# Altium integrated library Microchip Mixed Signal.IntLib: 1063 symbols (part 4 of 28)
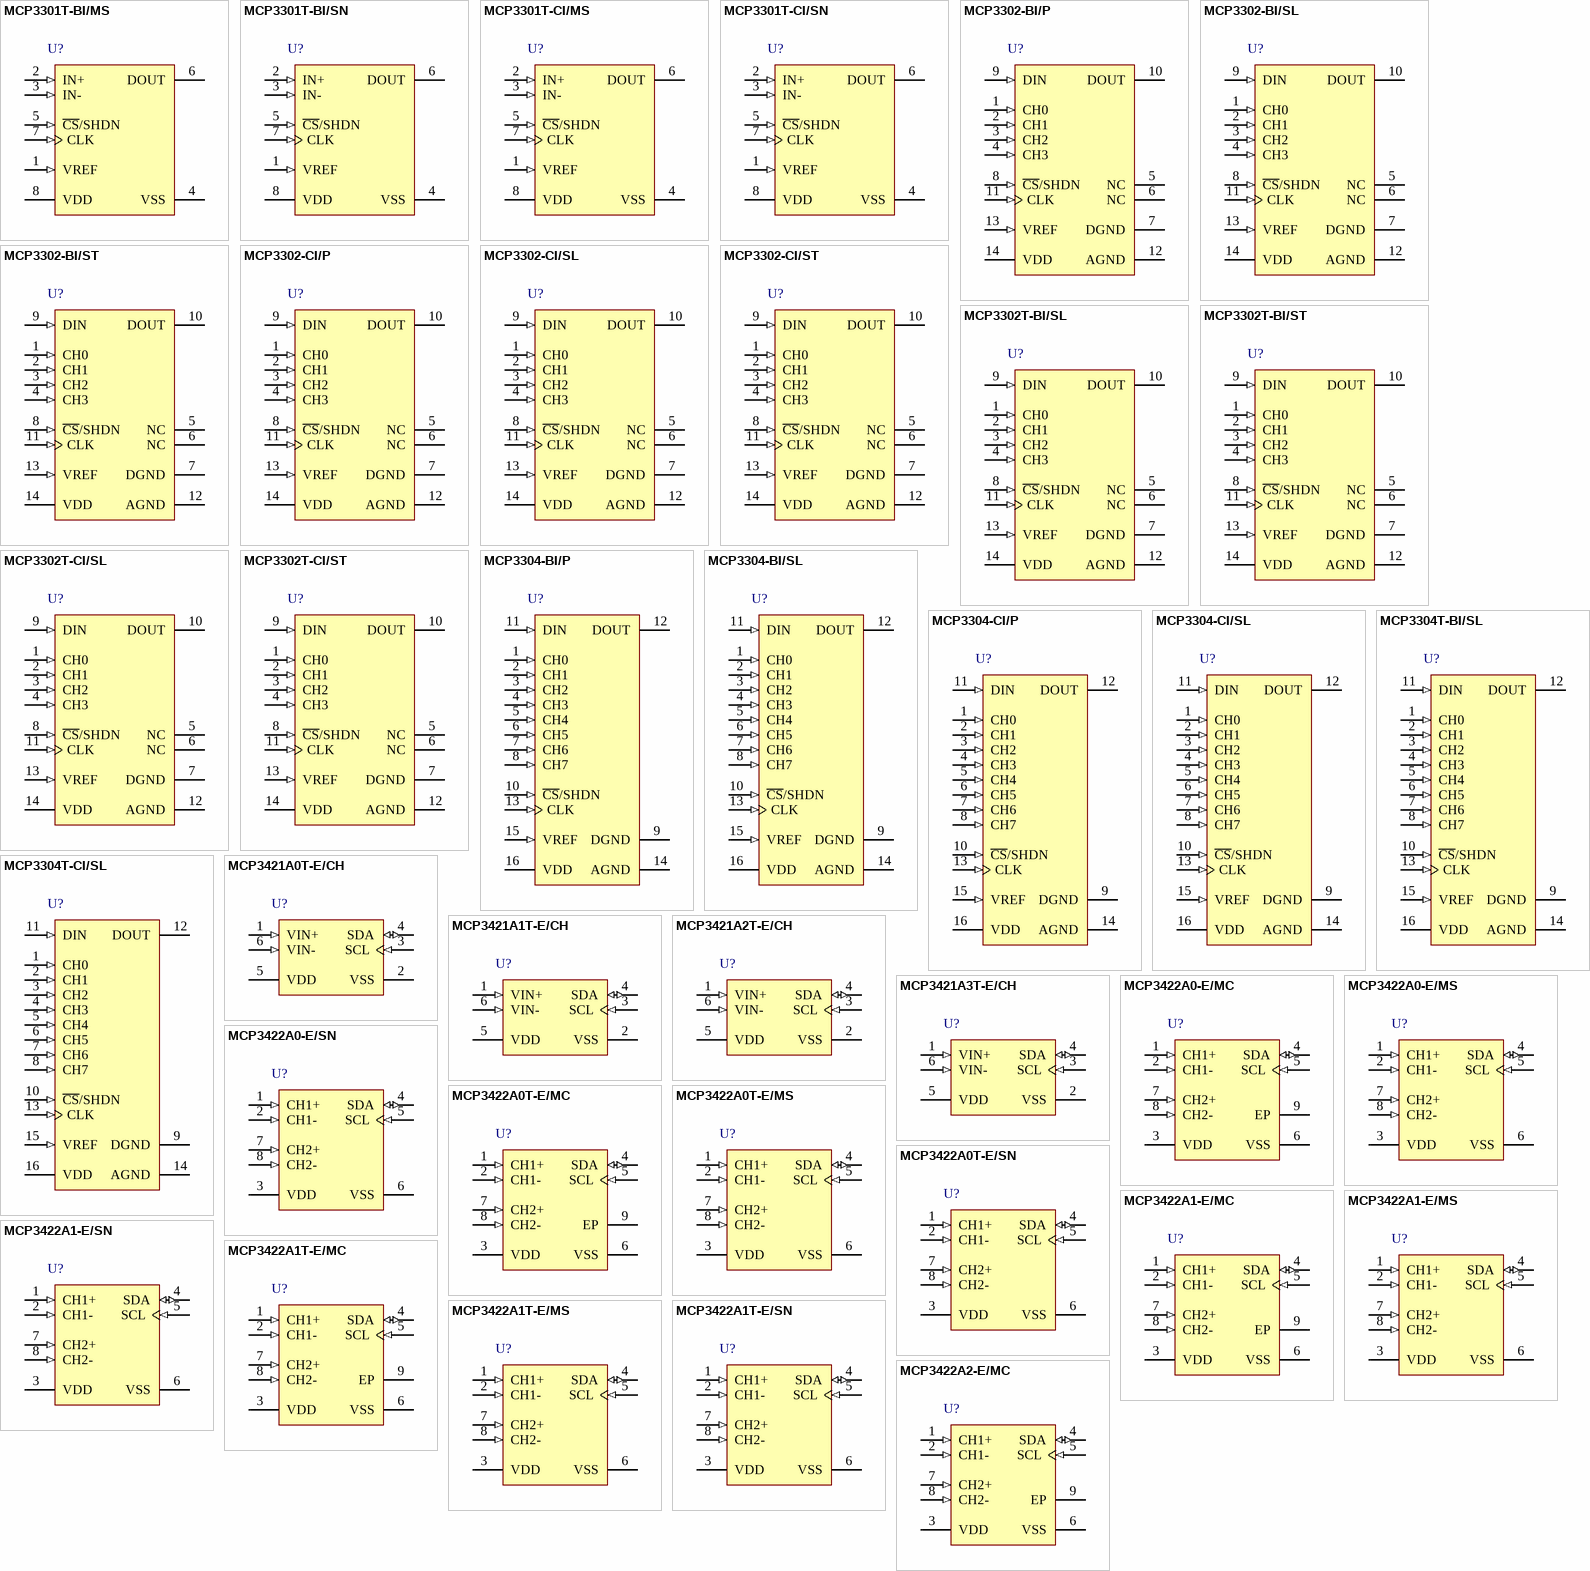
[diagram p34: symbols MCP3301T-BI/MS to MCP3422A2-E/MC]

## MCP3422A2-E/MC
designator U?
18-Bit, 4-Channel Analog-to-Digital Converter with I2C Interface and On-Board Reference, 8-pin DFN, Extended Temperature; Published: 2-Dec-2009; DatasheetVersion: revC, Aug-2009; PackageVersion: revBB, Aug-2009; PackageReference: DFN-MC8; Publisher: Altium Limited; PackageDescription: 8-Lead Plastic Dual Flat, No Lead Package (MC) - 2x3x0.9mm Body [DFN]; ComponentLink1Description: Datasheet; ComponentLink1URL: http://ww1.microchip.com/downloads/en/DeviceDoc/22088c.pdf; ComponentLink2Description: Packaging Specification; ComponentLink2URL: http://www.microchip.com/stellent/groups/techpub_sg/documents/packagingspec/en012702.pdf; ComponentLink3Description: Microchip.com Home; ComponentLink3URL: http://www.microchip.com/
footprint DFN-MC8 (SON, 8-Leads, Body 2x3mm, Pitch 0.5mm, Microchip Recommended)
pins: 1 CH1+ (in), 2 CH1- (in), 3 VDD (power), 4 SDA (io), 5 SCL (in), 6 VSS (power), 7 CH2+ (in), 8 CH2- (in), 9 EP

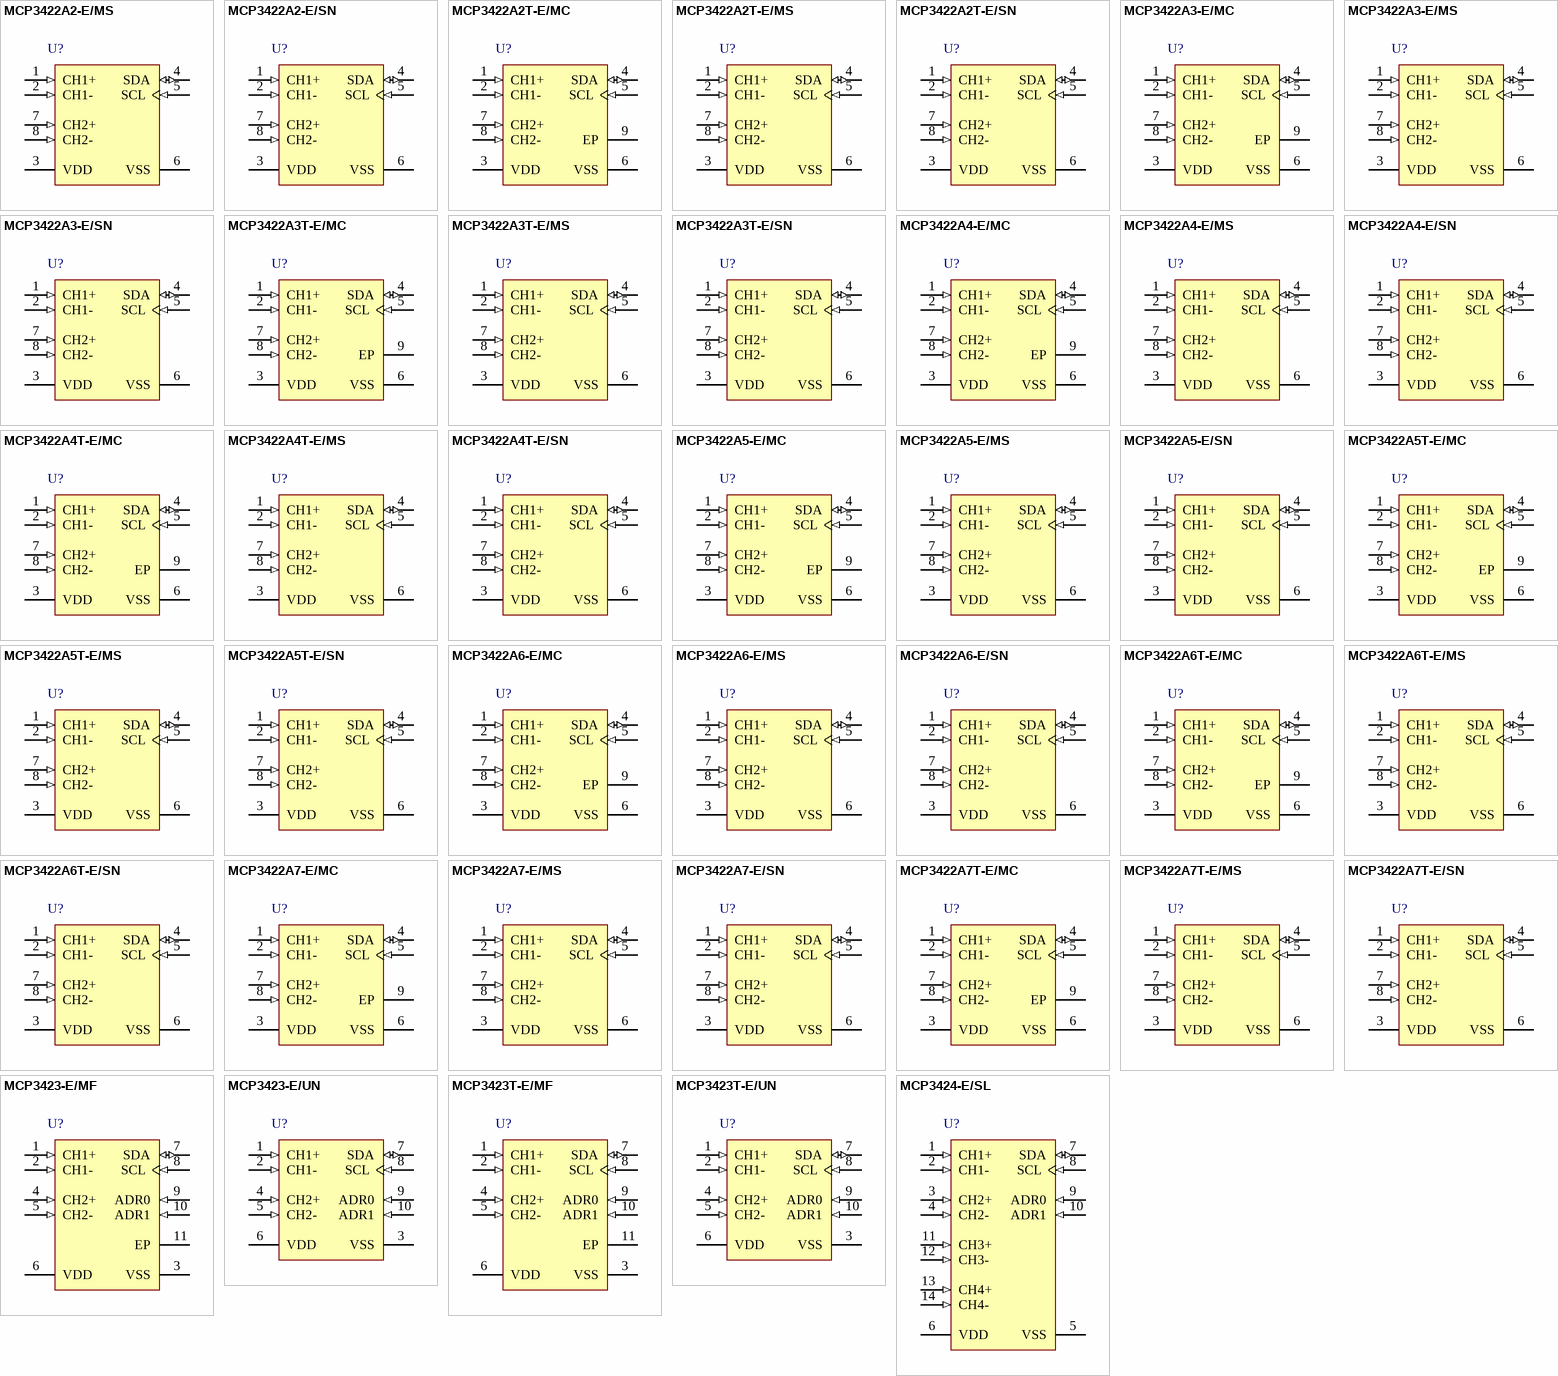
[diagram p3: symbols MCP3422A2-E/MS to MCP3424-E/SL]

## MCP3422A2-E/MS
designator U?
18-Bit, 4-Channel Analog-to-Digital Converter with I2C Interface and On-Board Reference, 8-pin MSOP, Extended Temperature; Published: 2-Dec-2009; DatasheetVersion: revC, Aug-2009; PackageVersion: revBB, Aug-2009; PackageReference: MSOP-MS8; Publisher: Altium Limited; PackageDescription: 8-Lead Plastic Micro Small Outline Package (MS) [MSOP]; ComponentLink1Description: Datasheet; ComponentLink1URL: http://ww1.microchip.com/downloads/en/DeviceDoc/22088c.pdf; ComponentLink2Description: Packaging Specification; ComponentLink2URL: http://www.microchip.com/stellent/groups/techpub_sg/documents/packagingspec/en012702.pdf; ComponentLink3Description: Microchip.com Home; ComponentLink3URL: http://www.microchip.com/
footprint MSOP-MS8_N (TSOP, 8-Leads, Body 3x3mm, Pitch 0.65mm, IPC Medium Density)
footprint MSOP-MS8_L (TSOP, 8-Leads, Body 3x3mm, Pitch 0.65mm, IPC High Density)
footprint MSOP-MS8_M (TSOP, 8-Leads, Body 3x3mm, Pitch 0.65mm, IPC Low Density)
pins: 1 CH1+ (in), 2 CH1- (in), 3 VDD (power), 4 SDA (io), 5 SCL (in), 6 VSS (power), 7 CH2+ (in), 8 CH2- (in)

## MCP3422A2-E/SN
designator U?
18-Bit, 4-Channel Analog-to-Digital Converter with I2C Interface and On-Board Reference, 8-pin SOIC, Extended Temperature; Published: 2-Dec-2009; DatasheetVersion: revC, Aug-2009; PackageVersion: revBB, Aug-2009; PackageReference: SOIC-SN8; Publisher: Altium Limited; PackageDescription: 8-Lead Plastic Small Outline (SN) - Narrow, 3.90mm Body [SOIC]; Code_JEDEC: MS-012; Code_IPC: SOIC127P600-8; ComponentLink1Description: Datasheet; ComponentLink1URL: http://ww1.microchip.com/downloads/en/DeviceDoc/22088c.pdf; ComponentLink2Description: Packaging Specification; ComponentLink2URL: http://www.microchip.com/stellent/groups/techpub_sg/documents/packagingspec/en012702.pdf; ComponentLink3Description: Microchip.com Home; ComponentLink3URL: http://www.microchip.com/
footprint SOIC-SN8_N (SOIC, 8-Leads, Body 4.9x3.8mm, Pitch 1.27mm, IPC Medium Density)
footprint SOIC-SN8_L (SOIC, 8-Leads, Body 4.9x3.8mm, Pitch 1.27mm, IPC High Density)
footprint SOIC-SN8_M (SOIC, 8-Leads, Body 4.9x3.8mm, Pitch 1.27mm, IPC Low Density)
pins: 1 CH1+ (in), 2 CH1- (in), 3 VDD (power), 4 SDA (io), 5 SCL (in), 6 VSS (power), 7 CH2+ (in), 8 CH2- (in)

## MCP3422A2T-E/MC
designator U?
18-Bit, 4-Channel Analog-to-Digital Converter with I2C Interface and On-Board Reference, 8-pin DFN, Extended Temperature, Tape and Reel; Published: 2-Dec-2009; DatasheetVersion: revC, Aug-2009; PackageVersion: revBB, Aug-2009; PackageReference: DFN-MC8; Publisher: Altium Limited; PackageDescription: 8-Lead Plastic Dual Flat, No Lead Package (MC) - 2x3x0.9mm Body [DFN]; ComponentLink1Description: Datasheet; ComponentLink1URL: http://ww1.microchip.com/downloads/en/DeviceDoc/22088c.pdf; ComponentLink2Description: Packaging Specification; ComponentLink2URL: http://www.microchip.com/stellent/groups/techpub_sg/documents/packagingspec/en012702.pdf; ComponentLink3Description: Microchip.com Home; ComponentLink3URL: http://www.microchip.com/
footprint DFN-MC8 (SON, 8-Leads, Body 2x3mm, Pitch 0.5mm, Microchip Recommended)
pins: 1 CH1+ (in), 2 CH1- (in), 3 VDD (power), 4 SDA (io), 5 SCL (in), 6 VSS (power), 7 CH2+ (in), 8 CH2- (in), 9 EP

## MCP3422A2T-E/MS
designator U?
18-Bit, 4-Channel Analog-to-Digital Converter with I2C Interface and On-Board Reference, 8-pin MSOP, Extended Temperature, Tape and Reel; Published: 2-Dec-2009; DatasheetVersion: revC, Aug-2009; PackageVersion: revBB, Aug-2009; PackageReference: MSOP-MS8; Publisher: Altium Limited; PackageDescription: 8-Lead Plastic Micro Small Outline Package (MS) [MSOP]; ComponentLink1Description: Datasheet; ComponentLink1URL: http://ww1.microchip.com/downloads/en/DeviceDoc/22088c.pdf; ComponentLink2Description: Packaging Specification; ComponentLink2URL: http://www.microchip.com/stellent/groups/techpub_sg/documents/packagingspec/en012702.pdf; ComponentLink3Description: Microchip.com Home; ComponentLink3URL: http://www.microchip.com/
footprint MSOP-MS8_N (TSOP, 8-Leads, Body 3x3mm, Pitch 0.65mm, IPC Medium Density)
footprint MSOP-MS8_L (TSOP, 8-Leads, Body 3x3mm, Pitch 0.65mm, IPC High Density)
footprint MSOP-MS8_M (TSOP, 8-Leads, Body 3x3mm, Pitch 0.65mm, IPC Low Density)
pins: 1 CH1+ (in), 2 CH1- (in), 3 VDD (power), 4 SDA (io), 5 SCL (in), 6 VSS (power), 7 CH2+ (in), 8 CH2- (in)

## MCP3422A2T-E/SN
designator U?
18-Bit, 4-Channel Analog-to-Digital Converter with I2C Interface and On-Board Reference, 8-pin SOIC, Extended Temperature, Tape and Reel; Published: 2-Dec-2009; DatasheetVersion: revC, Aug-2009; PackageVersion: revBB, Aug-2009; PackageReference: SOIC-SN8; Publisher: Altium Limited; PackageDescription: 8-Lead Plastic Small Outline (SN) - Narrow, 3.90mm Body [SOIC]; Code_JEDEC: MS-012; Code_IPC: SOIC127P600-8; ComponentLink1Description: Datasheet; ComponentLink1URL: http://ww1.microchip.com/downloads/en/DeviceDoc/22088c.pdf; ComponentLink2Description: Packaging Specification; ComponentLink2URL: http://www.microchip.com/stellent/groups/techpub_sg/documents/packagingspec/en012702.pdf; ComponentLink3Description: Microchip.com Home; ComponentLink3URL: http://www.microchip.com/
footprint SOIC-SN8_N (SOIC, 8-Leads, Body 4.9x3.8mm, Pitch 1.27mm, IPC Medium Density)
footprint SOIC-SN8_L (SOIC, 8-Leads, Body 4.9x3.8mm, Pitch 1.27mm, IPC High Density)
footprint SOIC-SN8_M (SOIC, 8-Leads, Body 4.9x3.8mm, Pitch 1.27mm, IPC Low Density)
pins: 1 CH1+ (in), 2 CH1- (in), 3 VDD (power), 4 SDA (io), 5 SCL (in), 6 VSS (power), 7 CH2+ (in), 8 CH2- (in)

## MCP3422A3-E/MC
designator U?
18-Bit, 4-Channel Analog-to-Digital Converter with I2C Interface and On-Board Reference, 8-pin DFN, Extended Temperature; Published: 2-Dec-2009; DatasheetVersion: revC, Aug-2009; PackageVersion: revBB, Aug-2009; PackageReference: DFN-MC8; Publisher: Altium Limited; PackageDescription: 8-Lead Plastic Dual Flat, No Lead Package (MC) - 2x3x0.9mm Body [DFN]; ComponentLink1Description: Datasheet; ComponentLink1URL: http://ww1.microchip.com/downloads/en/DeviceDoc/22088c.pdf; ComponentLink2Description: Packaging Specification; ComponentLink2URL: http://www.microchip.com/stellent/groups/techpub_sg/documents/packagingspec/en012702.pdf; ComponentLink3Description: Microchip.com Home; ComponentLink3URL: http://www.microchip.com/
footprint DFN-MC8 (SON, 8-Leads, Body 2x3mm, Pitch 0.5mm, Microchip Recommended)
pins: 1 CH1+ (in), 2 CH1- (in), 3 VDD (power), 4 SDA (io), 5 SCL (in), 6 VSS (power), 7 CH2+ (in), 8 CH2- (in), 9 EP

## MCP3422A3-E/MS
designator U?
18-Bit, 4-Channel Analog-to-Digital Converter with I2C Interface and On-Board Reference, 8-pin MSOP, Extended Temperature; Published: 2-Dec-2009; DatasheetVersion: revC, Aug-2009; PackageVersion: revBB, Aug-2009; PackageReference: MSOP-MS8; Publisher: Altium Limited; PackageDescription: 8-Lead Plastic Micro Small Outline Package (MS) [MSOP]; ComponentLink1Description: Datasheet; ComponentLink1URL: http://ww1.microchip.com/downloads/en/DeviceDoc/22088c.pdf; ComponentLink2Description: Packaging Specification; ComponentLink2URL: http://www.microchip.com/stellent/groups/techpub_sg/documents/packagingspec/en012702.pdf; ComponentLink3Description: Microchip.com Home; ComponentLink3URL: http://www.microchip.com/
footprint MSOP-MS8_N (TSOP, 8-Leads, Body 3x3mm, Pitch 0.65mm, IPC Medium Density)
footprint MSOP-MS8_L (TSOP, 8-Leads, Body 3x3mm, Pitch 0.65mm, IPC High Density)
footprint MSOP-MS8_M (TSOP, 8-Leads, Body 3x3mm, Pitch 0.65mm, IPC Low Density)
pins: 1 CH1+ (in), 2 CH1- (in), 3 VDD (power), 4 SDA (io), 5 SCL (in), 6 VSS (power), 7 CH2+ (in), 8 CH2- (in)

## MCP3422A3-E/SN
designator U?
18-Bit, 4-Channel Analog-to-Digital Converter with I2C Interface and On-Board Reference, 8-pin SOIC, Extended Temperature; Published: 2-Dec-2009; DatasheetVersion: revC, Aug-2009; PackageVersion: revBB, Aug-2009; PackageReference: SOIC-SN8; Publisher: Altium Limited; PackageDescription: 8-Lead Plastic Small Outline (SN) - Narrow, 3.90mm Body [SOIC]; Code_JEDEC: MS-012; Code_IPC: SOIC127P600-8; ComponentLink1Description: Datasheet; ComponentLink1URL: http://ww1.microchip.com/downloads/en/DeviceDoc/22088c.pdf; ComponentLink2Description: Packaging Specification; ComponentLink2URL: http://www.microchip.com/stellent/groups/techpub_sg/documents/packagingspec/en012702.pdf; ComponentLink3Description: Microchip.com Home; ComponentLink3URL: http://www.microchip.com/
footprint SOIC-SN8_N (SOIC, 8-Leads, Body 4.9x3.8mm, Pitch 1.27mm, IPC Medium Density)
footprint SOIC-SN8_L (SOIC, 8-Leads, Body 4.9x3.8mm, Pitch 1.27mm, IPC High Density)
footprint SOIC-SN8_M (SOIC, 8-Leads, Body 4.9x3.8mm, Pitch 1.27mm, IPC Low Density)
pins: 1 CH1+ (in), 2 CH1- (in), 3 VDD (power), 4 SDA (io), 5 SCL (in), 6 VSS (power), 7 CH2+ (in), 8 CH2- (in)

## MCP3422A3T-E/MC
designator U?
18-Bit, 4-Channel Analog-to-Digital Converter with I2C Interface and On-Board Reference, 8-pin DFN, Extended Temperature, Tape and Reel; Published: 2-Dec-2009; DatasheetVersion: revC, Aug-2009; PackageVersion: revBB, Aug-2009; PackageReference: DFN-MC8; Publisher: Altium Limited; PackageDescription: 8-Lead Plastic Dual Flat, No Lead Package (MC) - 2x3x0.9mm Body [DFN]; ComponentLink1Description: Datasheet; ComponentLink1URL: http://ww1.microchip.com/downloads/en/DeviceDoc/22088c.pdf; ComponentLink2Description: Packaging Specification; ComponentLink2URL: http://www.microchip.com/stellent/groups/techpub_sg/documents/packagingspec/en012702.pdf; ComponentLink3Description: Microchip.com Home; ComponentLink3URL: http://www.microchip.com/
footprint DFN-MC8 (SON, 8-Leads, Body 2x3mm, Pitch 0.5mm, Microchip Recommended)
pins: 1 CH1+ (in), 2 CH1- (in), 3 VDD (power), 4 SDA (io), 5 SCL (in), 6 VSS (power), 7 CH2+ (in), 8 CH2- (in), 9 EP

## MCP3422A3T-E/MS
designator U?
18-Bit, 4-Channel Analog-to-Digital Converter with I2C Interface and On-Board Reference, 8-pin MSOP, Extended Temperature, Tape and Reel; Published: 2-Dec-2009; DatasheetVersion: revC, Aug-2009; PackageVersion: revBB, Aug-2009; PackageReference: MSOP-MS8; Publisher: Altium Limited; PackageDescription: 8-Lead Plastic Micro Small Outline Package (MS) [MSOP]; ComponentLink1Description: Datasheet; ComponentLink1URL: http://ww1.microchip.com/downloads/en/DeviceDoc/22088c.pdf; ComponentLink2Description: Packaging Specification; ComponentLink2URL: http://www.microchip.com/stellent/groups/techpub_sg/documents/packagingspec/en012702.pdf; ComponentLink3Description: Microchip.com Home; ComponentLink3URL: http://www.microchip.com/
footprint MSOP-MS8_N (TSOP, 8-Leads, Body 3x3mm, Pitch 0.65mm, IPC Medium Density)
footprint MSOP-MS8_L (TSOP, 8-Leads, Body 3x3mm, Pitch 0.65mm, IPC High Density)
footprint MSOP-MS8_M (TSOP, 8-Leads, Body 3x3mm, Pitch 0.65mm, IPC Low Density)
pins: 1 CH1+ (in), 2 CH1- (in), 3 VDD (power), 4 SDA (io), 5 SCL (in), 6 VSS (power), 7 CH2+ (in), 8 CH2- (in)

## MCP3422A3T-E/SN
designator U?
18-Bit, 4-Channel Analog-to-Digital Converter with I2C Interface and On-Board Reference, 8-pin SOIC, Extended Temperature, Tape and Reel; Published: 2-Dec-2009; DatasheetVersion: revC, Aug-2009; PackageVersion: revBB, Aug-2009; PackageReference: SOIC-SN8; Publisher: Altium Limited; PackageDescription: 8-Lead Plastic Small Outline (SN) - Narrow, 3.90mm Body [SOIC]; Code_JEDEC: MS-012; Code_IPC: SOIC127P600-8; ComponentLink1Description: Datasheet; ComponentLink1URL: http://ww1.microchip.com/downloads/en/DeviceDoc/22088c.pdf; ComponentLink2Description: Packaging Specification; ComponentLink2URL: http://www.microchip.com/stellent/groups/techpub_sg/documents/packagingspec/en012702.pdf; ComponentLink3Description: Microchip.com Home; ComponentLink3URL: http://www.microchip.com/
footprint SOIC-SN8_N (SOIC, 8-Leads, Body 4.9x3.8mm, Pitch 1.27mm, IPC Medium Density)
footprint SOIC-SN8_L (SOIC, 8-Leads, Body 4.9x3.8mm, Pitch 1.27mm, IPC High Density)
footprint SOIC-SN8_M (SOIC, 8-Leads, Body 4.9x3.8mm, Pitch 1.27mm, IPC Low Density)
pins: 1 CH1+ (in), 2 CH1- (in), 3 VDD (power), 4 SDA (io), 5 SCL (in), 6 VSS (power), 7 CH2+ (in), 8 CH2- (in)

## MCP3422A4-E/MC
designator U?
18-Bit, 4-Channel Analog-to-Digital Converter with I2C Interface and On-Board Reference, 8-pin DFN, Extended Temperature; Published: 2-Dec-2009; DatasheetVersion: revC, Aug-2009; PackageVersion: revBB, Aug-2009; PackageReference: DFN-MC8; Publisher: Altium Limited; PackageDescription: 8-Lead Plastic Dual Flat, No Lead Package (MC) - 2x3x0.9mm Body [DFN]; ComponentLink1Description: Datasheet; ComponentLink1URL: http://ww1.microchip.com/downloads/en/DeviceDoc/22088c.pdf; ComponentLink2Description: Packaging Specification; ComponentLink2URL: http://www.microchip.com/stellent/groups/techpub_sg/documents/packagingspec/en012702.pdf; ComponentLink3Description: Microchip.com Home; ComponentLink3URL: http://www.microchip.com/
footprint DFN-MC8 (SON, 8-Leads, Body 2x3mm, Pitch 0.5mm, Microchip Recommended)
pins: 1 CH1+ (in), 2 CH1- (in), 3 VDD (power), 4 SDA (io), 5 SCL (in), 6 VSS (power), 7 CH2+ (in), 8 CH2- (in), 9 EP

## MCP3422A4-E/MS
designator U?
18-Bit, 4-Channel Analog-to-Digital Converter with I2C Interface and On-Board Reference, 8-pin MSOP, Extended Temperature; Published: 2-Dec-2009; DatasheetVersion: revC, Aug-2009; PackageVersion: revBB, Aug-2009; PackageReference: MSOP-MS8; Publisher: Altium Limited; PackageDescription: 8-Lead Plastic Micro Small Outline Package (MS) [MSOP]; ComponentLink1Description: Datasheet; ComponentLink1URL: http://ww1.microchip.com/downloads/en/DeviceDoc/22088c.pdf; ComponentLink2Description: Packaging Specification; ComponentLink2URL: http://www.microchip.com/stellent/groups/techpub_sg/documents/packagingspec/en012702.pdf; ComponentLink3Description: Microchip.com Home; ComponentLink3URL: http://www.microchip.com/
footprint MSOP-MS8_N (TSOP, 8-Leads, Body 3x3mm, Pitch 0.65mm, IPC Medium Density)
footprint MSOP-MS8_L (TSOP, 8-Leads, Body 3x3mm, Pitch 0.65mm, IPC High Density)
footprint MSOP-MS8_M (TSOP, 8-Leads, Body 3x3mm, Pitch 0.65mm, IPC Low Density)
pins: 1 CH1+ (in), 2 CH1- (in), 3 VDD (power), 4 SDA (io), 5 SCL (in), 6 VSS (power), 7 CH2+ (in), 8 CH2- (in)

## MCP3422A4-E/SN
designator U?
18-Bit, 4-Channel Analog-to-Digital Converter with I2C Interface and On-Board Reference, 8-pin SOIC, Extended Temperature; Published: 2-Dec-2009; DatasheetVersion: revC, Aug-2009; PackageVersion: revBB, Aug-2009; PackageReference: SOIC-SN8; Publisher: Altium Limited; PackageDescription: 8-Lead Plastic Small Outline (SN) - Narrow, 3.90mm Body [SOIC]; Code_JEDEC: MS-012; Code_IPC: SOIC127P600-8; ComponentLink1Description: Datasheet; ComponentLink1URL: http://ww1.microchip.com/downloads/en/DeviceDoc/22088c.pdf; ComponentLink2Description: Packaging Specification; ComponentLink2URL: http://www.microchip.com/stellent/groups/techpub_sg/documents/packagingspec/en012702.pdf; ComponentLink3Description: Microchip.com Home; ComponentLink3URL: http://www.microchip.com/
footprint SOIC-SN8_N (SOIC, 8-Leads, Body 4.9x3.8mm, Pitch 1.27mm, IPC Medium Density)
footprint SOIC-SN8_L (SOIC, 8-Leads, Body 4.9x3.8mm, Pitch 1.27mm, IPC High Density)
footprint SOIC-SN8_M (SOIC, 8-Leads, Body 4.9x3.8mm, Pitch 1.27mm, IPC Low Density)
pins: 1 CH1+ (in), 2 CH1- (in), 3 VDD (power), 4 SDA (io), 5 SCL (in), 6 VSS (power), 7 CH2+ (in), 8 CH2- (in)

## MCP3422A4T-E/MC
designator U?
18-Bit, 4-Channel Analog-to-Digital Converter with I2C Interface and On-Board Reference, 8-pin DFN, Extended Temperature, Tape and Reel; Published: 2-Dec-2009; DatasheetVersion: revC, Aug-2009; PackageVersion: revBB, Aug-2009; PackageReference: DFN-MC8; Publisher: Altium Limited; PackageDescription: 8-Lead Plastic Dual Flat, No Lead Package (MC) - 2x3x0.9mm Body [DFN]; ComponentLink1Description: Datasheet; ComponentLink1URL: http://ww1.microchip.com/downloads/en/DeviceDoc/22088c.pdf; ComponentLink2Description: Packaging Specification; ComponentLink2URL: http://www.microchip.com/stellent/groups/techpub_sg/documents/packagingspec/en012702.pdf; ComponentLink3Description: Microchip.com Home; ComponentLink3URL: http://www.microchip.com/
footprint DFN-MC8 (SON, 8-Leads, Body 2x3mm, Pitch 0.5mm, Microchip Recommended)
pins: 1 CH1+ (in), 2 CH1- (in), 3 VDD (power), 4 SDA (io), 5 SCL (in), 6 VSS (power), 7 CH2+ (in), 8 CH2- (in), 9 EP

## MCP3422A4T-E/MS
designator U?
18-Bit, 4-Channel Analog-to-Digital Converter with I2C Interface and On-Board Reference, 8-pin MSOP, Extended Temperature, Tape and Reel; Published: 2-Dec-2009; DatasheetVersion: revC, Aug-2009; PackageVersion: revBB, Aug-2009; PackageReference: MSOP-MS8; Publisher: Altium Limited; PackageDescription: 8-Lead Plastic Micro Small Outline Package (MS) [MSOP]; ComponentLink1Description: Datasheet; ComponentLink1URL: http://ww1.microchip.com/downloads/en/DeviceDoc/22088c.pdf; ComponentLink2Description: Packaging Specification; ComponentLink2URL: http://www.microchip.com/stellent/groups/techpub_sg/documents/packagingspec/en012702.pdf; ComponentLink3Description: Microchip.com Home; ComponentLink3URL: http://www.microchip.com/
footprint MSOP-MS8_N (TSOP, 8-Leads, Body 3x3mm, Pitch 0.65mm, IPC Medium Density)
footprint MSOP-MS8_L (TSOP, 8-Leads, Body 3x3mm, Pitch 0.65mm, IPC High Density)
footprint MSOP-MS8_M (TSOP, 8-Leads, Body 3x3mm, Pitch 0.65mm, IPC Low Density)
pins: 1 CH1+ (in), 2 CH1- (in), 3 VDD (power), 4 SDA (io), 5 SCL (in), 6 VSS (power), 7 CH2+ (in), 8 CH2- (in)

## MCP3422A4T-E/SN
designator U?
18-Bit, 4-Channel Analog-to-Digital Converter with I2C Interface and On-Board Reference, 8-pin SOIC, Extended Temperature, Tape and Reel; Published: 2-Dec-2009; DatasheetVersion: revC, Aug-2009; PackageVersion: revBB, Aug-2009; PackageReference: SOIC-SN8; Publisher: Altium Limited; PackageDescription: 8-Lead Plastic Small Outline (SN) - Narrow, 3.90mm Body [SOIC]; Code_JEDEC: MS-012; Code_IPC: SOIC127P600-8; ComponentLink1Description: Datasheet; ComponentLink1URL: http://ww1.microchip.com/downloads/en/DeviceDoc/22088c.pdf; ComponentLink2Description: Packaging Specification; ComponentLink2URL: http://www.microchip.com/stellent/groups/techpub_sg/documents/packagingspec/en012702.pdf; ComponentLink3Description: Microchip.com Home; ComponentLink3URL: http://www.microchip.com/
footprint SOIC-SN8_N (SOIC, 8-Leads, Body 4.9x3.8mm, Pitch 1.27mm, IPC Medium Density)
footprint SOIC-SN8_L (SOIC, 8-Leads, Body 4.9x3.8mm, Pitch 1.27mm, IPC High Density)
footprint SOIC-SN8_M (SOIC, 8-Leads, Body 4.9x3.8mm, Pitch 1.27mm, IPC Low Density)
pins: 1 CH1+ (in), 2 CH1- (in), 3 VDD (power), 4 SDA (io), 5 SCL (in), 6 VSS (power), 7 CH2+ (in), 8 CH2- (in)

## MCP3422A5-E/MC
designator U?
18-Bit, 4-Channel Analog-to-Digital Converter with I2C Interface and On-Board Reference, 8-pin DFN, Extended Temperature; Published: 2-Dec-2009; DatasheetVersion: revC, Aug-2009; PackageVersion: revBB, Aug-2009; PackageReference: DFN-MC8; Publisher: Altium Limited; PackageDescription: 8-Lead Plastic Dual Flat, No Lead Package (MC) - 2x3x0.9mm Body [DFN]; ComponentLink1Description: Datasheet; ComponentLink1URL: http://ww1.microchip.com/downloads/en/DeviceDoc/22088c.pdf; ComponentLink2Description: Packaging Specification; ComponentLink2URL: http://www.microchip.com/stellent/groups/techpub_sg/documents/packagingspec/en012702.pdf; ComponentLink3Description: Microchip.com Home; ComponentLink3URL: http://www.microchip.com/
footprint DFN-MC8 (SON, 8-Leads, Body 2x3mm, Pitch 0.5mm, Microchip Recommended)
pins: 1 CH1+ (in), 2 CH1- (in), 3 VDD (power), 4 SDA (io), 5 SCL (in), 6 VSS (power), 7 CH2+ (in), 8 CH2- (in), 9 EP

## MCP3422A5-E/MS
designator U?
18-Bit, 4-Channel Analog-to-Digital Converter with I2C Interface and On-Board Reference, 8-pin MSOP, Extended Temperature; Published: 2-Dec-2009; DatasheetVersion: revC, Aug-2009; PackageVersion: revBB, Aug-2009; PackageReference: MSOP-MS8; Publisher: Altium Limited; PackageDescription: 8-Lead Plastic Micro Small Outline Package (MS) [MSOP]; ComponentLink1Description: Datasheet; ComponentLink1URL: http://ww1.microchip.com/downloads/en/DeviceDoc/22088c.pdf; ComponentLink2Description: Packaging Specification; ComponentLink2URL: http://www.microchip.com/stellent/groups/techpub_sg/documents/packagingspec/en012702.pdf; ComponentLink3Description: Microchip.com Home; ComponentLink3URL: http://www.microchip.com/
footprint MSOP-MS8_N (TSOP, 8-Leads, Body 3x3mm, Pitch 0.65mm, IPC Medium Density)
footprint MSOP-MS8_L (TSOP, 8-Leads, Body 3x3mm, Pitch 0.65mm, IPC High Density)
footprint MSOP-MS8_M (TSOP, 8-Leads, Body 3x3mm, Pitch 0.65mm, IPC Low Density)
pins: 1 CH1+ (in), 2 CH1- (in), 3 VDD (power), 4 SDA (io), 5 SCL (in), 6 VSS (power), 7 CH2+ (in), 8 CH2- (in)

## MCP3422A5-E/SN
designator U?
18-Bit, 4-Channel Analog-to-Digital Converter with I2C Interface and On-Board Reference, 8-pin SOIC, Extended Temperature; Published: 2-Dec-2009; DatasheetVersion: revC, Aug-2009; PackageVersion: revBB, Aug-2009; PackageReference: SOIC-SN8; Publisher: Altium Limited; PackageDescription: 8-Lead Plastic Small Outline (SN) - Narrow, 3.90mm Body [SOIC]; Code_JEDEC: MS-012; Code_IPC: SOIC127P600-8; ComponentLink1Description: Datasheet; ComponentLink1URL: http://ww1.microchip.com/downloads/en/DeviceDoc/22088c.pdf; ComponentLink2Description: Packaging Specification; ComponentLink2URL: http://www.microchip.com/stellent/groups/techpub_sg/documents/packagingspec/en012702.pdf; ComponentLink3Description: Microchip.com Home; ComponentLink3URL: http://www.microchip.com/
footprint SOIC-SN8_N (SOIC, 8-Leads, Body 4.9x3.8mm, Pitch 1.27mm, IPC Medium Density)
footprint SOIC-SN8_L (SOIC, 8-Leads, Body 4.9x3.8mm, Pitch 1.27mm, IPC High Density)
footprint SOIC-SN8_M (SOIC, 8-Leads, Body 4.9x3.8mm, Pitch 1.27mm, IPC Low Density)
pins: 1 CH1+ (in), 2 CH1- (in), 3 VDD (power), 4 SDA (io), 5 SCL (in), 6 VSS (power), 7 CH2+ (in), 8 CH2- (in)

## MCP3422A5T-E/MC
designator U?
18-Bit, 4-Channel Analog-to-Digital Converter with I2C Interface and On-Board Reference, 8-pin DFN, Extended Temperature, Tape and Reel; Published: 2-Dec-2009; DatasheetVersion: revC, Aug-2009; PackageVersion: revBB, Aug-2009; PackageReference: DFN-MC8; Publisher: Altium Limited; PackageDescription: 8-Lead Plastic Dual Flat, No Lead Package (MC) - 2x3x0.9mm Body [DFN]; ComponentLink1Description: Datasheet; ComponentLink1URL: http://ww1.microchip.com/downloads/en/DeviceDoc/22088c.pdf; ComponentLink2Description: Packaging Specification; ComponentLink2URL: http://www.microchip.com/stellent/groups/techpub_sg/documents/packagingspec/en012702.pdf; ComponentLink3Description: Microchip.com Home; ComponentLink3URL: http://www.microchip.com/
footprint DFN-MC8 (SON, 8-Leads, Body 2x3mm, Pitch 0.5mm, Microchip Recommended)
pins: 1 CH1+ (in), 2 CH1- (in), 3 VDD (power), 4 SDA (io), 5 SCL (in), 6 VSS (power), 7 CH2+ (in), 8 CH2- (in), 9 EP

## MCP3422A5T-E/MS
designator U?
18-Bit, 4-Channel Analog-to-Digital Converter with I2C Interface and On-Board Reference, 8-pin MSOP, Extended Temperature, Tape and Reel; Published: 2-Dec-2009; DatasheetVersion: revC, Aug-2009; PackageVersion: revBB, Aug-2009; PackageReference: MSOP-MS8; Publisher: Altium Limited; PackageDescription: 8-Lead Plastic Micro Small Outline Package (MS) [MSOP]; ComponentLink1Description: Datasheet; ComponentLink1URL: http://ww1.microchip.com/downloads/en/DeviceDoc/22088c.pdf; ComponentLink2Description: Packaging Specification; ComponentLink2URL: http://www.microchip.com/stellent/groups/techpub_sg/documents/packagingspec/en012702.pdf; ComponentLink3Description: Microchip.com Home; ComponentLink3URL: http://www.microchip.com/
footprint MSOP-MS8_N (TSOP, 8-Leads, Body 3x3mm, Pitch 0.65mm, IPC Medium Density)
footprint MSOP-MS8_L (TSOP, 8-Leads, Body 3x3mm, Pitch 0.65mm, IPC High Density)
footprint MSOP-MS8_M (TSOP, 8-Leads, Body 3x3mm, Pitch 0.65mm, IPC Low Density)
pins: 1 CH1+ (in), 2 CH1- (in), 3 VDD (power), 4 SDA (io), 5 SCL (in), 6 VSS (power), 7 CH2+ (in), 8 CH2- (in)

## MCP3422A5T-E/SN
designator U?
18-Bit, 4-Channel Analog-to-Digital Converter with I2C Interface and On-Board Reference, 8-pin SOIC, Extended Temperature, Tape and Reel; Published: 2-Dec-2009; DatasheetVersion: revC, Aug-2009; PackageVersion: revBB, Aug-2009; PackageReference: SOIC-SN8; Publisher: Altium Limited; PackageDescription: 8-Lead Plastic Small Outline (SN) - Narrow, 3.90mm Body [SOIC]; Code_JEDEC: MS-012; Code_IPC: SOIC127P600-8; ComponentLink1Description: Datasheet; ComponentLink1URL: http://ww1.microchip.com/downloads/en/DeviceDoc/22088c.pdf; ComponentLink2Description: Packaging Specification; ComponentLink2URL: http://www.microchip.com/stellent/groups/techpub_sg/documents/packagingspec/en012702.pdf; ComponentLink3Description: Microchip.com Home; ComponentLink3URL: http://www.microchip.com/
footprint SOIC-SN8_N (SOIC, 8-Leads, Body 4.9x3.8mm, Pitch 1.27mm, IPC Medium Density)
footprint SOIC-SN8_L (SOIC, 8-Leads, Body 4.9x3.8mm, Pitch 1.27mm, IPC High Density)
footprint SOIC-SN8_M (SOIC, 8-Leads, Body 4.9x3.8mm, Pitch 1.27mm, IPC Low Density)
pins: 1 CH1+ (in), 2 CH1- (in), 3 VDD (power), 4 SDA (io), 5 SCL (in), 6 VSS (power), 7 CH2+ (in), 8 CH2- (in)

## MCP3422A6-E/MC
designator U?
18-Bit, 4-Channel Analog-to-Digital Converter with I2C Interface and On-Board Reference, 8-pin DFN, Extended Temperature; Published: 2-Dec-2009; DatasheetVersion: revC, Aug-2009; PackageVersion: revBB, Aug-2009; PackageReference: DFN-MC8; Publisher: Altium Limited; PackageDescription: 8-Lead Plastic Dual Flat, No Lead Package (MC) - 2x3x0.9mm Body [DFN]; ComponentLink1Description: Datasheet; ComponentLink1URL: http://ww1.microchip.com/downloads/en/DeviceDoc/22088c.pdf; ComponentLink2Description: Packaging Specification; ComponentLink2URL: http://www.microchip.com/stellent/groups/techpub_sg/documents/packagingspec/en012702.pdf; ComponentLink3Description: Microchip.com Home; ComponentLink3URL: http://www.microchip.com/
footprint DFN-MC8 (SON, 8-Leads, Body 2x3mm, Pitch 0.5mm, Microchip Recommended)
pins: 1 CH1+ (in), 2 CH1- (in), 3 VDD (power), 4 SDA (io), 5 SCL (in), 6 VSS (power), 7 CH2+ (in), 8 CH2- (in), 9 EP

## MCP3422A6-E/MS
designator U?
18-Bit, 4-Channel Analog-to-Digital Converter with I2C Interface and On-Board Reference, 8-pin MSOP, Extended Temperature; Published: 2-Dec-2009; DatasheetVersion: revC, Aug-2009; PackageVersion: revBB, Aug-2009; PackageReference: MSOP-MS8; Publisher: Altium Limited; PackageDescription: 8-Lead Plastic Micro Small Outline Package (MS) [MSOP]; ComponentLink1Description: Datasheet; ComponentLink1URL: http://ww1.microchip.com/downloads/en/DeviceDoc/22088c.pdf; ComponentLink2Description: Packaging Specification; ComponentLink2URL: http://www.microchip.com/stellent/groups/techpub_sg/documents/packagingspec/en012702.pdf; ComponentLink3Description: Microchip.com Home; ComponentLink3URL: http://www.microchip.com/
footprint MSOP-MS8_N (TSOP, 8-Leads, Body 3x3mm, Pitch 0.65mm, IPC Medium Density)
footprint MSOP-MS8_L (TSOP, 8-Leads, Body 3x3mm, Pitch 0.65mm, IPC High Density)
footprint MSOP-MS8_M (TSOP, 8-Leads, Body 3x3mm, Pitch 0.65mm, IPC Low Density)
pins: 1 CH1+ (in), 2 CH1- (in), 3 VDD (power), 4 SDA (io), 5 SCL (in), 6 VSS (power), 7 CH2+ (in), 8 CH2- (in)

## MCP3422A6-E/SN
designator U?
18-Bit, 4-Channel Analog-to-Digital Converter with I2C Interface and On-Board Reference, 8-pin SOIC, Extended Temperature; Published: 2-Dec-2009; DatasheetVersion: revC, Aug-2009; PackageVersion: revBB, Aug-2009; PackageReference: SOIC-SN8; Publisher: Altium Limited; PackageDescription: 8-Lead Plastic Small Outline (SN) - Narrow, 3.90mm Body [SOIC]; Code_JEDEC: MS-012; Code_IPC: SOIC127P600-8; ComponentLink1Description: Datasheet; ComponentLink1URL: http://ww1.microchip.com/downloads/en/DeviceDoc/22088c.pdf; ComponentLink2Description: Packaging Specification; ComponentLink2URL: http://www.microchip.com/stellent/groups/techpub_sg/documents/packagingspec/en012702.pdf; ComponentLink3Description: Microchip.com Home; ComponentLink3URL: http://www.microchip.com/
footprint SOIC-SN8_N (SOIC, 8-Leads, Body 4.9x3.8mm, Pitch 1.27mm, IPC Medium Density)
footprint SOIC-SN8_L (SOIC, 8-Leads, Body 4.9x3.8mm, Pitch 1.27mm, IPC High Density)
footprint SOIC-SN8_M (SOIC, 8-Leads, Body 4.9x3.8mm, Pitch 1.27mm, IPC Low Density)
pins: 1 CH1+ (in), 2 CH1- (in), 3 VDD (power), 4 SDA (io), 5 SCL (in), 6 VSS (power), 7 CH2+ (in), 8 CH2- (in)

## MCP3422A6T-E/MC
designator U?
18-Bit, 4-Channel Analog-to-Digital Converter with I2C Interface and On-Board Reference, 8-pin DFN, Extended Temperature, Tape and Reel; Published: 2-Dec-2009; DatasheetVersion: revC, Aug-2009; PackageVersion: revBB, Aug-2009; PackageReference: DFN-MC8; Publisher: Altium Limited; PackageDescription: 8-Lead Plastic Dual Flat, No Lead Package (MC) - 2x3x0.9mm Body [DFN]; ComponentLink1Description: Datasheet; ComponentLink1URL: http://ww1.microchip.com/downloads/en/DeviceDoc/22088c.pdf; ComponentLink2Description: Packaging Specification; ComponentLink2URL: http://www.microchip.com/stellent/groups/techpub_sg/documents/packagingspec/en012702.pdf; ComponentLink3Description: Microchip.com Home; ComponentLink3URL: http://www.microchip.com/
footprint DFN-MC8 (SON, 8-Leads, Body 2x3mm, Pitch 0.5mm, Microchip Recommended)
pins: 1 CH1+ (in), 2 CH1- (in), 3 VDD (power), 4 SDA (io), 5 SCL (in), 6 VSS (power), 7 CH2+ (in), 8 CH2- (in), 9 EP

## MCP3422A6T-E/MS
designator U?
18-Bit, 4-Channel Analog-to-Digital Converter with I2C Interface and On-Board Reference, 8-pin MSOP, Extended Temperature, Tape and Reel; Published: 2-Dec-2009; DatasheetVersion: revC, Aug-2009; PackageVersion: revBB, Aug-2009; PackageReference: MSOP-MS8; Publisher: Altium Limited; PackageDescription: 8-Lead Plastic Micro Small Outline Package (MS) [MSOP]; ComponentLink1Description: Datasheet; ComponentLink1URL: http://ww1.microchip.com/downloads/en/DeviceDoc/22088c.pdf; ComponentLink2Description: Packaging Specification; ComponentLink2URL: http://www.microchip.com/stellent/groups/techpub_sg/documents/packagingspec/en012702.pdf; ComponentLink3Description: Microchip.com Home; ComponentLink3URL: http://www.microchip.com/
footprint MSOP-MS8_N (TSOP, 8-Leads, Body 3x3mm, Pitch 0.65mm, IPC Medium Density)
footprint MSOP-MS8_L (TSOP, 8-Leads, Body 3x3mm, Pitch 0.65mm, IPC High Density)
footprint MSOP-MS8_M (TSOP, 8-Leads, Body 3x3mm, Pitch 0.65mm, IPC Low Density)
pins: 1 CH1+ (in), 2 CH1- (in), 3 VDD (power), 4 SDA (io), 5 SCL (in), 6 VSS (power), 7 CH2+ (in), 8 CH2- (in)

## MCP3422A6T-E/SN
designator U?
18-Bit, 4-Channel Analog-to-Digital Converter with I2C Interface and On-Board Reference, 8-pin SOIC, Extended Temperature, Tape and Reel; Published: 2-Dec-2009; DatasheetVersion: revC, Aug-2009; PackageVersion: revBB, Aug-2009; PackageReference: SOIC-SN8; Publisher: Altium Limited; PackageDescription: 8-Lead Plastic Small Outline (SN) - Narrow, 3.90mm Body [SOIC]; Code_JEDEC: MS-012; Code_IPC: SOIC127P600-8; ComponentLink1Description: Datasheet; ComponentLink1URL: http://ww1.microchip.com/downloads/en/DeviceDoc/22088c.pdf; ComponentLink2Description: Packaging Specification; ComponentLink2URL: http://www.microchip.com/stellent/groups/techpub_sg/documents/packagingspec/en012702.pdf; ComponentLink3Description: Microchip.com Home; ComponentLink3URL: http://www.microchip.com/
footprint SOIC-SN8_N (SOIC, 8-Leads, Body 4.9x3.8mm, Pitch 1.27mm, IPC Medium Density)
footprint SOIC-SN8_L (SOIC, 8-Leads, Body 4.9x3.8mm, Pitch 1.27mm, IPC High Density)
footprint SOIC-SN8_M (SOIC, 8-Leads, Body 4.9x3.8mm, Pitch 1.27mm, IPC Low Density)
pins: 1 CH1+ (in), 2 CH1- (in), 3 VDD (power), 4 SDA (io), 5 SCL (in), 6 VSS (power), 7 CH2+ (in), 8 CH2- (in)

## MCP3422A7-E/MC
designator U?
18-Bit, 4-Channel Analog-to-Digital Converter with I2C Interface and On-Board Reference, 8-pin DFN, Extended Temperature; Published: 2-Dec-2009; DatasheetVersion: revC, Aug-2009; PackageVersion: revBB, Aug-2009; PackageReference: DFN-MC8; Publisher: Altium Limited; PackageDescription: 8-Lead Plastic Dual Flat, No Lead Package (MC) - 2x3x0.9mm Body [DFN]; ComponentLink1Description: Datasheet; ComponentLink1URL: http://ww1.microchip.com/downloads/en/DeviceDoc/22088c.pdf; ComponentLink2Description: Packaging Specification; ComponentLink2URL: http://www.microchip.com/stellent/groups/techpub_sg/documents/packagingspec/en012702.pdf; ComponentLink3Description: Microchip.com Home; ComponentLink3URL: http://www.microchip.com/
footprint DFN-MC8 (SON, 8-Leads, Body 2x3mm, Pitch 0.5mm, Microchip Recommended)
pins: 1 CH1+ (in), 2 CH1- (in), 3 VDD (power), 4 SDA (io), 5 SCL (in), 6 VSS (power), 7 CH2+ (in), 8 CH2- (in), 9 EP

## MCP3422A7-E/MS
designator U?
18-Bit, 4-Channel Analog-to-Digital Converter with I2C Interface and On-Board Reference, 8-pin MSOP, Extended Temperature; Published: 2-Dec-2009; DatasheetVersion: revC, Aug-2009; PackageVersion: revBB, Aug-2009; PackageReference: MSOP-MS8; Publisher: Altium Limited; PackageDescription: 8-Lead Plastic Micro Small Outline Package (MS) [MSOP]; ComponentLink1Description: Datasheet; ComponentLink1URL: http://ww1.microchip.com/downloads/en/DeviceDoc/22088c.pdf; ComponentLink2Description: Packaging Specification; ComponentLink2URL: http://www.microchip.com/stellent/groups/techpub_sg/documents/packagingspec/en012702.pdf; ComponentLink3Description: Microchip.com Home; ComponentLink3URL: http://www.microchip.com/
footprint MSOP-MS8_N (TSOP, 8-Leads, Body 3x3mm, Pitch 0.65mm, IPC Medium Density)
footprint MSOP-MS8_L (TSOP, 8-Leads, Body 3x3mm, Pitch 0.65mm, IPC High Density)
footprint MSOP-MS8_M (TSOP, 8-Leads, Body 3x3mm, Pitch 0.65mm, IPC Low Density)
pins: 1 CH1+ (in), 2 CH1- (in), 3 VDD (power), 4 SDA (io), 5 SCL (in), 6 VSS (power), 7 CH2+ (in), 8 CH2- (in)

## MCP3422A7-E/SN
designator U?
18-Bit, 4-Channel Analog-to-Digital Converter with I2C Interface and On-Board Reference, 8-pin SOIC, Extended Temperature; Published: 2-Dec-2009; DatasheetVersion: revC, Aug-2009; PackageVersion: revBB, Aug-2009; PackageReference: SOIC-SN8; Publisher: Altium Limited; PackageDescription: 8-Lead Plastic Small Outline (SN) - Narrow, 3.90mm Body [SOIC]; Code_JEDEC: MS-012; Code_IPC: SOIC127P600-8; ComponentLink1Description: Datasheet; ComponentLink1URL: http://ww1.microchip.com/downloads/en/DeviceDoc/22088c.pdf; ComponentLink2Description: Packaging Specification; ComponentLink2URL: http://www.microchip.com/stellent/groups/techpub_sg/documents/packagingspec/en012702.pdf; ComponentLink3Description: Microchip.com Home; ComponentLink3URL: http://www.microchip.com/
footprint SOIC-SN8_N (SOIC, 8-Leads, Body 4.9x3.8mm, Pitch 1.27mm, IPC Medium Density)
footprint SOIC-SN8_L (SOIC, 8-Leads, Body 4.9x3.8mm, Pitch 1.27mm, IPC High Density)
footprint SOIC-SN8_M (SOIC, 8-Leads, Body 4.9x3.8mm, Pitch 1.27mm, IPC Low Density)
pins: 1 CH1+ (in), 2 CH1- (in), 3 VDD (power), 4 SDA (io), 5 SCL (in), 6 VSS (power), 7 CH2+ (in), 8 CH2- (in)

## MCP3422A7T-E/MC
designator U?
18-Bit, 4-Channel Analog-to-Digital Converter with I2C Interface and On-Board Reference, 8-pin DFN, Extended Temperature, Tape and Reel; Published: 2-Dec-2009; DatasheetVersion: revC, Aug-2009; PackageVersion: revBB, Aug-2009; PackageReference: DFN-MC8; Publisher: Altium Limited; PackageDescription: 8-Lead Plastic Dual Flat, No Lead Package (MC) - 2x3x0.9mm Body [DFN]; ComponentLink1Description: Datasheet; ComponentLink1URL: http://ww1.microchip.com/downloads/en/DeviceDoc/22088c.pdf; ComponentLink2Description: Packaging Specification; ComponentLink2URL: http://www.microchip.com/stellent/groups/techpub_sg/documents/packagingspec/en012702.pdf; ComponentLink3Description: Microchip.com Home; ComponentLink3URL: http://www.microchip.com/
footprint DFN-MC8 (SON, 8-Leads, Body 2x3mm, Pitch 0.5mm, Microchip Recommended)
pins: 1 CH1+ (in), 2 CH1- (in), 3 VDD (power), 4 SDA (io), 5 SCL (in), 6 VSS (power), 7 CH2+ (in), 8 CH2- (in), 9 EP

## MCP3422A7T-E/MS
designator U?
18-Bit, 4-Channel Analog-to-Digital Converter with I2C Interface and On-Board Reference, 8-pin MSOP, Extended Temperature, Tape and Reel; Published: 2-Dec-2009; DatasheetVersion: revC, Aug-2009; PackageVersion: revBB, Aug-2009; PackageReference: MSOP-MS8; Publisher: Altium Limited; PackageDescription: 8-Lead Plastic Micro Small Outline Package (MS) [MSOP]; ComponentLink1Description: Datasheet; ComponentLink1URL: http://ww1.microchip.com/downloads/en/DeviceDoc/22088c.pdf; ComponentLink2Description: Packaging Specification; ComponentLink2URL: http://www.microchip.com/stellent/groups/techpub_sg/documents/packagingspec/en012702.pdf; ComponentLink3Description: Microchip.com Home; ComponentLink3URL: http://www.microchip.com/
footprint MSOP-MS8_N (TSOP, 8-Leads, Body 3x3mm, Pitch 0.65mm, IPC Medium Density)
footprint MSOP-MS8_L (TSOP, 8-Leads, Body 3x3mm, Pitch 0.65mm, IPC High Density)
footprint MSOP-MS8_M (TSOP, 8-Leads, Body 3x3mm, Pitch 0.65mm, IPC Low Density)
pins: 1 CH1+ (in), 2 CH1- (in), 3 VDD (power), 4 SDA (io), 5 SCL (in), 6 VSS (power), 7 CH2+ (in), 8 CH2- (in)

## MCP3422A7T-E/SN
designator U?
18-Bit, 4-Channel Analog-to-Digital Converter with I2C Interface and On-Board Reference, 8-pin SOIC, Extended Temperature, Tape and Reel; Published: 2-Dec-2009; DatasheetVersion: revC, Aug-2009; PackageVersion: revBB, Aug-2009; PackageReference: SOIC-SN8; Publisher: Altium Limited; PackageDescription: 8-Lead Plastic Small Outline (SN) - Narrow, 3.90mm Body [SOIC]; Code_JEDEC: MS-012; Code_IPC: SOIC127P600-8; ComponentLink1Description: Datasheet; ComponentLink1URL: http://ww1.microchip.com/downloads/en/DeviceDoc/22088c.pdf; ComponentLink2Description: Packaging Specification; ComponentLink2URL: http://www.microchip.com/stellent/groups/techpub_sg/documents/packagingspec/en012702.pdf; ComponentLink3Description: Microchip.com Home; ComponentLink3URL: http://www.microchip.com/
footprint SOIC-SN8_N (SOIC, 8-Leads, Body 4.9x3.8mm, Pitch 1.27mm, IPC Medium Density)
footprint SOIC-SN8_L (SOIC, 8-Leads, Body 4.9x3.8mm, Pitch 1.27mm, IPC High Density)
footprint SOIC-SN8_M (SOIC, 8-Leads, Body 4.9x3.8mm, Pitch 1.27mm, IPC Low Density)
pins: 1 CH1+ (in), 2 CH1- (in), 3 VDD (power), 4 SDA (io), 5 SCL (in), 6 VSS (power), 7 CH2+ (in), 8 CH2- (in)

## MCP3423-E/MF
designator U?
18-Bit, 4-Channel Analog-to-Digital Converter with I2C Interface and On-Board Reference, 10-pin DFN, Extended Temperature; Published: 2-Dec-2009; DatasheetVersion: revC, Aug-2009; PackageVersion: revBB, Aug-2009; PackageReference: DFN-MF10; Publisher: Altium Limited; PackageDescription: 10-Lead Plastic Dual Flat, No Lead Package (MF) - 3x3x0.9mm Body [DFN]; Supplier 1: Digi-Key; Supplier Part Number 1: MCP3423-E/MF-ND; Supplier 2: Farnell; Supplier Part Number 2: 1834908; ComponentLink1Description: Datasheet; ComponentLink1URL: http://ww1.microchip.com/downloads/en/DeviceDoc/22088c.pdf; ComponentLink2Description: Packaging Specification; ComponentLink2URL: http://www.microchip.com/stellent/groups/techpub_sg/documents/packagingspec/en012702.pdf; ComponentLink3Description: Microchip.com Home; ComponentLink3URL: http://www.microchip.com/
footprint DFN-MF10 (SON, 10-Leads, Body 3x3mm, Pitch 0.5mm, Microchip Recommended)
pins: 1 CH1+ (in), 2 CH1- (in), 3 VSS (power), 4 CH2+ (in), 5 CH2- (in), 6 VDD (power), 7 SDA (io), 8 SCL (in), 9 ADR0 (in), 10 ADR1 (in), 11 EP

## MCP3423-E/UN
designator U?
18-Bit, 4-Channel Analog-to-Digital Converter with I2C Interface and On-Board Reference, 10-pin MSOP, Extended Temperature; Published: 2-Dec-2009; DatasheetVersion: revC, Aug-2009; PackageVersion: revBB, Aug-2009; PackageReference: MSOP-UN10; Publisher: Altium Limited; PackageDescription: 10-Lead Plastic Micro Small Outline Package (UN) [MSOP]; Supplier 1: Digi-Key; Supplier Part Number 1: MCP3423-E/UN-ND; Supplier 2: Farnell; Supplier Part Number 2: 1690407; ComponentLink1Description: Datasheet; ComponentLink1URL: http://ww1.microchip.com/downloads/en/DeviceDoc/22088c.pdf; ComponentLink2Description: Packaging Specification; ComponentLink2URL: http://www.microchip.com/stellent/groups/techpub_sg/documents/packagingspec/en012702.pdf; ComponentLink3Description: Microchip.com Home; ComponentLink3URL: http://www.microchip.com/
footprint MSOP-UN10_N (TSSOP, 10-Leads, Body 3x3mm, Pitch 0.5mm, IPC Medium Density)
footprint MSOP-UN10_L (TSSOP, 10-Leads, Body 3x3mm, Pitch 0.5mm, IPC High Density)
footprint MSOP-UN10_M (TSSOP, 10-Leads, Body 3x3mm, Pitch 0.5mm, IPC Low Density)
pins: 1 CH1+ (in), 2 CH1- (in), 3 VSS (power), 4 CH2+ (in), 5 CH2- (in), 6 VDD (power), 7 SDA (io), 8 SCL (in), 9 ADR0 (in), 10 ADR1 (in)

## MCP3423T-E/MF
designator U?
18-Bit, 4-Channel Analog-to-Digital Converter with I2C Interface and On-Board Reference, 10-pin DFN, Extended Temperature, Tape and Reel; Published: 2-Dec-2009; DatasheetVersion: revC, Aug-2009; PackageVersion: revBB, Aug-2009; PackageReference: DFN-MF10; Publisher: Altium Limited; PackageDescription: 10-Lead Plastic Dual Flat, No Lead Package (MF) - 3x3x0.9mm Body [DFN]; Supplier 1: Digi-Key; Supplier Part Number 1: MCP3423T-E/MFTR-ND; ComponentLink1Description: Datasheet; ComponentLink1URL: http://ww1.microchip.com/downloads/en/DeviceDoc/22088c.pdf; ComponentLink2Description: Packaging Specification; ComponentLink2URL: http://www.microchip.com/stellent/groups/techpub_sg/documents/packagingspec/en012702.pdf; ComponentLink3Description: Microchip.com Home; ComponentLink3URL: http://www.microchip.com/
footprint DFN-MF10 (SON, 10-Leads, Body 3x3mm, Pitch 0.5mm, Microchip Recommended)
pins: 1 CH1+ (in), 2 CH1- (in), 3 VSS (power), 4 CH2+ (in), 5 CH2- (in), 6 VDD (power), 7 SDA (io), 8 SCL (in), 9 ADR0 (in), 10 ADR1 (in), 11 EP

## MCP3423T-E/UN
designator U?
18-Bit, 4-Channel Analog-to-Digital Converter with I2C Interface and On-Board Reference, 10-pin MSOP, Extended Temperature, Tape and Reel; Published: 2-Dec-2009; DatasheetVersion: revC, Aug-2009; PackageVersion: revBB, Aug-2009; PackageReference: MSOP-UN10; Publisher: Altium Limited; PackageDescription: 10-Lead Plastic Micro Small Outline Package (UN) [MSOP]; Supplier 1: Digi-Key; Supplier Part Number 1: MCP3423T-E/UNTR-ND; ComponentLink1Description: Datasheet; ComponentLink1URL: http://ww1.microchip.com/downloads/en/DeviceDoc/22088c.pdf; ComponentLink2Description: Packaging Specification; ComponentLink2URL: http://www.microchip.com/stellent/groups/techpub_sg/documents/packagingspec/en012702.pdf; ComponentLink3Description: Microchip.com Home; ComponentLink3URL: http://www.microchip.com/
footprint MSOP-UN10_N (TSSOP, 10-Leads, Body 3x3mm, Pitch 0.5mm, IPC Medium Density)
footprint MSOP-UN10_L (TSSOP, 10-Leads, Body 3x3mm, Pitch 0.5mm, IPC High Density)
footprint MSOP-UN10_M (TSSOP, 10-Leads, Body 3x3mm, Pitch 0.5mm, IPC Low Density)
pins: 1 CH1+ (in), 2 CH1- (in), 3 VSS (power), 4 CH2+ (in), 5 CH2- (in), 6 VDD (power), 7 SDA (io), 8 SCL (in), 9 ADR0 (in), 10 ADR1 (in)

## MCP3424-E/SL
designator U?
18-Bit, 4-Channel Analog-to-Digital Converter with I2C Interface and On-Board Reference, 14-Pin SOIC 150mil, Extended Temperature; Published: 29-Jan-2009; LatestRevisionDate: 02-Dec-2009; LatestRevisionNote: Updated to datasheet revision C, Aug-2009; DatasheetVersion: revC, Aug-2009; PackageVersion: revBB, Aug-2009; PackageReference: SOIC-SL14; Publisher: Altium Limited; PackageDescription: 14-Lead Plastic Small Outline (SL) - Narrow, 3.90mm Body [SOIC]; Supplier 1: Digi-Key; Supplier Part Number 1: MCP3424-E/SL-ND; Supplier 2: Farnell; Supplier Part Number 2: 1630424; Code_JEDEC: MS-012-AB; Code_IPC: SOIC127P600-14; ComponentLink1Description: Datasheet; ComponentLink1URL: http://ww1.microchip.com/downloads/en/DeviceDoc/22088c.pdf; ComponentLink2Description: Packaging Specification; ComponentLink2URL: http://www.microchip.com/stellent/groups/techpub_sg/documents/packagingspec/en012702.pdf; ComponentLink3Description: Microchip.com Home; ComponentLink3URL: http://www.microchip.com/
footprint SOIC-SL14_N (SOIC, 14-Leads, Body 8.7x3.9mm, Pitch 1.27mm, IPC Medium Density)
footprint SOIC-SL14_L (SOIC, 14-Leads, Body 8.7x3.9mm, Pitch 1.27mm, IPC High Density)
footprint SOIC-SL14_M (SOIC, 14-Leads, Body 8.7x3.9mm, Pitch 1.27mm, IPC Low Density)
pins: 1 CH1+ (in), 2 CH1- (in), 3 CH2+ (in), 4 CH2- (in), 5 VSS (power), 6 VDD (power), 7 SDA (io), 8 SCL (in), 9 ADR0 (in), 10 ADR1 (in), 11 CH3+ (in), 12 CH3- (in), 13 CH4+ (in), 14 CH4- (in)

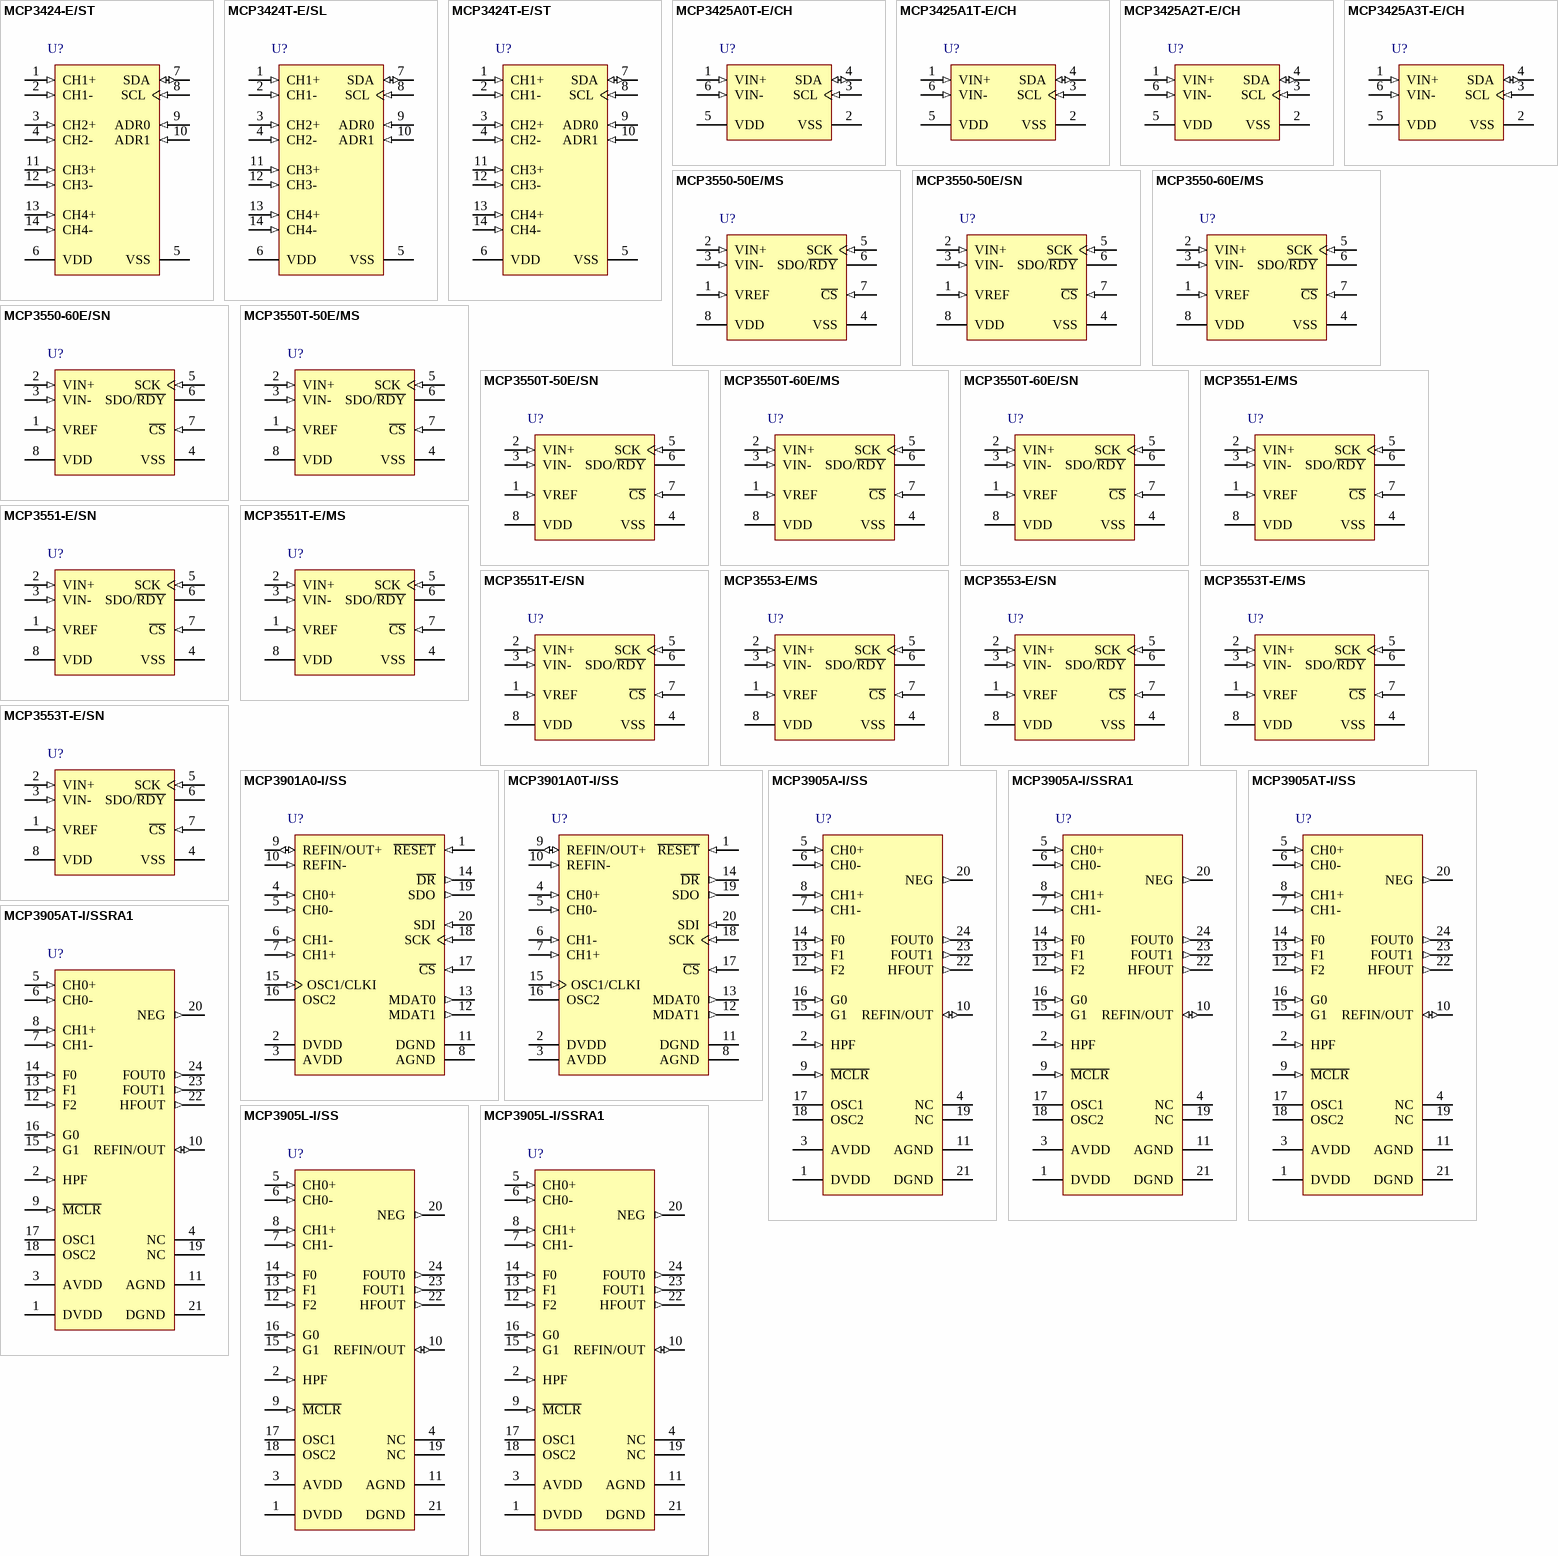
[diagram p4: symbols MCP3424-E/ST to MCP3905L-I/SSRA1]

## MCP3424-E/ST
designator U?
18-Bit, 4-Channel Analog-to-Digital Converter with I2C Interface and On-Board Reference, 14-Pin TSSOP, Extended Temperature; Published: 29-Jan-2009; LatestRevisionDate: 02-Dec-2009; LatestRevisionNote: Updated to datasheet revision C, Aug-2009; DatasheetVersion: revC, Aug-2009; PackageVersion: revBB, Aug-2009; PackageReference: TSSOP-ST14; Publisher: Altium Limited; PackageDescription: 14-Lead Plastic Thin Shrink Small Outline (ST) - 4.4mm Body [TSSOP]; Supplier 1: Digi-Key; Supplier Part Number 1: MCP3424-E/ST-ND; Supplier 2: Farnell; Supplier Part Number 2: 1630423; ComponentLink1Description: Datasheet; ComponentLink1URL: http://ww1.microchip.com/downloads/en/DeviceDoc/22088c.pdf; ComponentLink2Description: Packaging Specification; ComponentLink2URL: http://www.microchip.com/stellent/groups/techpub_sg/documents/packagingspec/en012702.pdf; ComponentLink3Description: Microchip.com Home; ComponentLink3URL: http://www.microchip.com/
footprint TSSOP-ST14_N (TSOP, 14-Leads, Body 5x4.4mm, Pitch 0.65mm, IPC Medium Density)
footprint TSSOP-ST14_L (TSOP, 14-Leads, Body 5x4.4mm, Pitch 0.65mm, IPC High Density)
footprint TSSOP-ST14_M (TSOP, 14-Leads, Body 5x4.4mm, Pitch 0.65mm, IPC Low Density)
pins: 1 CH1+ (in), 2 CH1- (in), 3 CH2+ (in), 4 CH2- (in), 5 VSS (power), 6 VDD (power), 7 SDA (io), 8 SCL (in), 9 ADR0 (in), 10 ADR1 (in), 11 CH3+ (in), 12 CH3- (in), 13 CH4+ (in), 14 CH4- (in)

## MCP3424T-E/SL
designator U?
18-Bit, 4-Channel Analog-to-Digital Converter with I2C Interface and On-Board Reference, 14-Pin SOIC 150mil, Extended Temperature, Tape and Reel; Published: 29-Jan-2009; LatestRevisionDate: 02-Dec-2009; LatestRevisionNote: Updated to datasheet revision C, Aug-2009; DatasheetVersion: revC, Aug-2009; PackageVersion: revBB, Aug-2009; PackageReference: SOIC-SL14; Publisher: Altium Limited; PackageDescription: 14-Lead Plastic Small Outline (SL) - Narrow, 3.90mm Body [SOIC]; Supplier 1: Digi-Key; Supplier Part Number 1: MCP3424T-E/SLTR-ND; Code_JEDEC: MS-012-AB; Code_IPC: SOIC127P600-14; ComponentLink1Description: Datasheet; ComponentLink1URL: http://ww1.microchip.com/downloads/en/DeviceDoc/22088c.pdf; ComponentLink2Description: Packaging Specification; ComponentLink2URL: http://www.microchip.com/stellent/groups/techpub_sg/documents/packagingspec/en012702.pdf; ComponentLink3Description: Microchip.com Home; ComponentLink3URL: http://www.microchip.com/
footprint SOIC-SL14_N (SOIC, 14-Leads, Body 8.7x3.9mm, Pitch 1.27mm, IPC Medium Density)
footprint SOIC-SL14_L (SOIC, 14-Leads, Body 8.7x3.9mm, Pitch 1.27mm, IPC High Density)
footprint SOIC-SL14_M (SOIC, 14-Leads, Body 8.7x3.9mm, Pitch 1.27mm, IPC Low Density)
pins: 1 CH1+ (in), 2 CH1- (in), 3 CH2+ (in), 4 CH2- (in), 5 VSS (power), 6 VDD (power), 7 SDA (io), 8 SCL (in), 9 ADR0 (in), 10 ADR1 (in), 11 CH3+ (in), 12 CH3- (in), 13 CH4+ (in), 14 CH4- (in)

## MCP3424T-E/ST
designator U?
18-Bit, 4-Channel Analog-to-Digital Converter with I2C Interface and On-Board Reference, 14-Pin TSSOP, Extended Temperature, Tape and Reel; Published: 29-Jan-2009; LatestRevisionDate: 02-Dec-2009; LatestRevisionNote: Updated to datasheet revision C, Aug-2009; DatasheetVersion: revC, Aug-2009; PackageVersion: revBB, Aug-2009; PackageReference: TSSOP-ST14; Publisher: Altium Limited; PackageDescription: 14-Lead Plastic Thin Shrink Small Outline (ST) - 4.4mm Body [TSSOP]; Supplier 1: Digi-Key; Supplier Part Number 1: MCP3424T-E/STTR-ND; ComponentLink1Description: Datasheet; ComponentLink1URL: http://ww1.microchip.com/downloads/en/DeviceDoc/22088c.pdf; ComponentLink2Description: Packaging Specification; ComponentLink2URL: http://www.microchip.com/stellent/groups/techpub_sg/documents/packagingspec/en012702.pdf; ComponentLink3Description: Microchip.com Home; ComponentLink3URL: http://www.microchip.com/
footprint TSSOP-ST14_N (TSOP, 14-Leads, Body 5x4.4mm, Pitch 0.65mm, IPC Medium Density)
footprint TSSOP-ST14_L (TSOP, 14-Leads, Body 5x4.4mm, Pitch 0.65mm, IPC High Density)
footprint TSSOP-ST14_M (TSOP, 14-Leads, Body 5x4.4mm, Pitch 0.65mm, IPC Low Density)
pins: 1 CH1+ (in), 2 CH1- (in), 3 CH2+ (in), 4 CH2- (in), 5 VSS (power), 6 VDD (power), 7 SDA (io), 8 SCL (in), 9 ADR0 (in), 10 ADR1 (in), 11 CH3+ (in), 12 CH3- (in), 13 CH4+ (in), 14 CH4- (in)